# EAGLE library part MD03A (library pololu)
Pololu MD03A Motor Driver tested: YES (etherbotix)
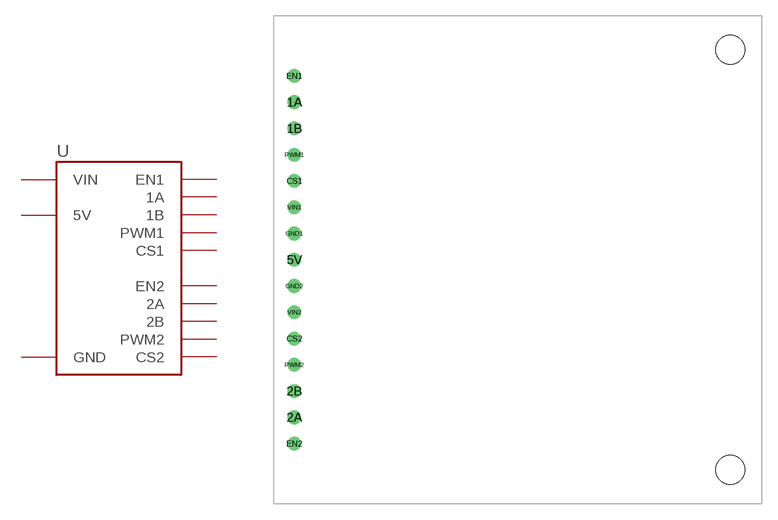
[diagram p0: symbol with the pads of MD03A; footprint MD03A]

Designator prefix -

## MD03A  [MD03A]
1A  1A
1B  1B
2A  2A
2B  2B
5V  5V
CS1  CS1
CS2  CS2
EN1  EN1
EN2  EN2
GND1  GND
GND2  GND
PWM1  PWM1
PWM2  PWM2
VIN1  VIN
VIN2  VIN

## Footprint MD03A (pad centres in mm)
drill 0.813: 1A 0,15.24; 1B 0,12.7; 2A 0,-15.24; 2B 0,-12.7; 5V 0,0; CS1 0,7.62; CS2 0,-7.62; EN1 0,17.78; EN2 0,-17.78; GND1 0,2.54; GND2 0,-2.54; PWM1 0,10.16; PWM2 0,-10.16; VIN1 0,5.08; VIN2 0,-5.08
hole 2.8 at 42.164,20.32
hole 2.8 at 42.164,-20.32